# EAGLE library part MSP30F2013 (library My_TI)
MSP30F2013 edit this description Auto generated by make-symbol-device-package-bsdl.ulp Rev. 43 Source: MSP30F2013.txt
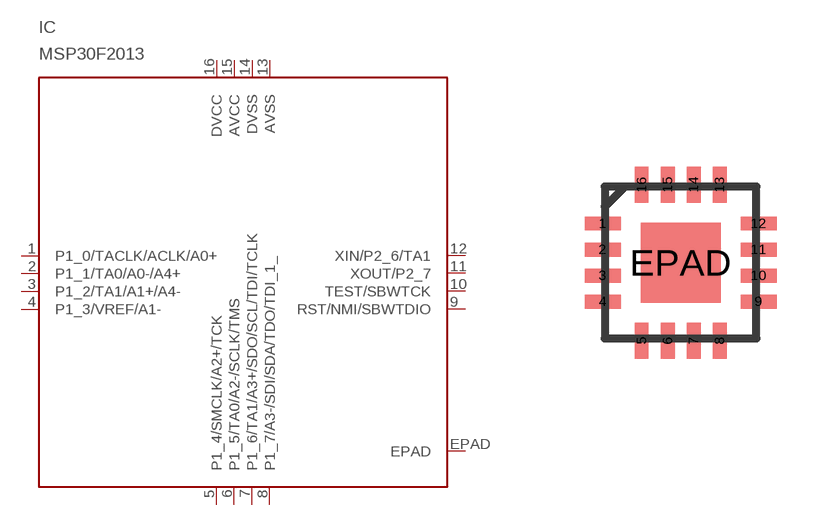
[diagram p0: symbol with the pads of VQFN16-4X4; footprint VQFN16-4X4]

Designator prefix IC

## MSP30F2013  [VQFN16-4X4]
1  P1_0/TACLK/ACLK/A0+
2  P1_1/TA0/A0-/A4+
3  P1_2/TA1/A1+/A4-
4  P1_3/VREF/A1-
5  P1_4/SMCLK/A2+/TCK
6  P1_5/TA0/A2-/SCLK/TMS
7  P1_6/TA1/A3+/SDO/SCL/TDI/TCLK
8  P1_7/A3-/SDI/SDA/TDO/TDI_1_
9  RST/NMI/SBWTDIO
10  TEST/SBWTCK
11  XOUT/P2_7
12  XIN/P2_6/TA1
13  AVSS  pwr
14  DVSS  pwr
15  AVCC  pwr
16  DVCC  pwr
EPAD  EPAD  pwr

## Footprint VQFN16-4X4 (pad centres in mm)
VQFN16-4X4 Auto generated by make-symbol-device-package-bsdl.ulp Rev. 43
smd 0.9 x 0.35: 1 -1.95,0.975; 2 -1.95,0.325; 3 -1.95,-0.325; 4 -1.95,-0.975; 9 1.95,-0.975; 10 1.95,-0.325; 11 1.95,0.325; 12 1.95,0.975
smd 0.35 x 0.9: 5 -0.975,-1.95; 6 -0.325,-1.95; 7 0.325,-1.95; 8 0.975,-1.95; 13 0.975,1.95; 14 0.325,1.95; 15 -0.325,1.95; 16 -0.975,1.95
smd 2 x 2: EPAD 0,0